# Altium footprint library InvenSense.PcbLib: 1 footprints
Each footprint in its own frame and in the unit in brackets; x right, y up, seen from the top. Pads: shape width x height; smd on the part's side, far side on the other; paste and mask are expansions set on the pad; w line width, h text height; cw(c..) or ccw(c..) is an arc to the next point about the centre after c.
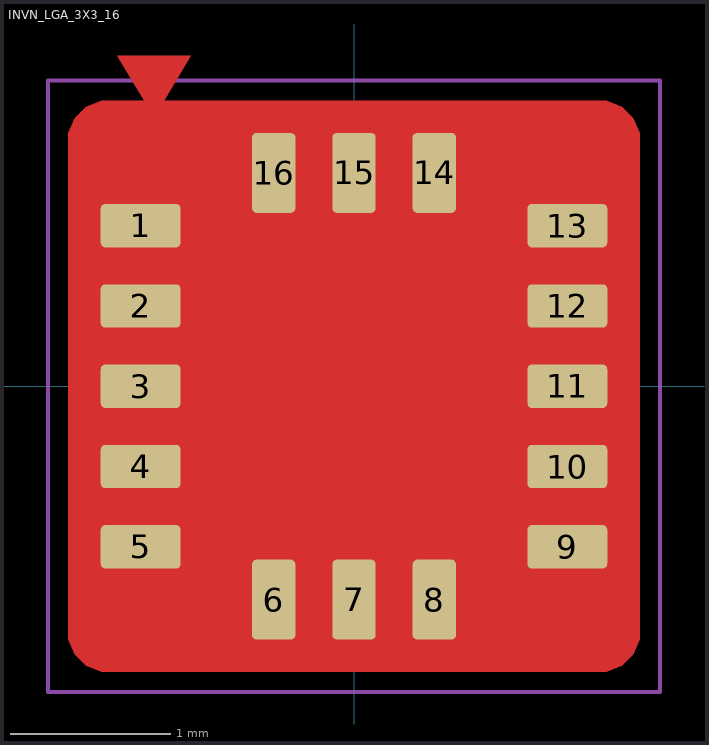
[diagram p0: the footprint, top view; thin cyan lines are the x and y axes]

## INVN_LGA_3X3_16 [mm]
pads (16):
  rrect20% 0.497x0.27 smd mask+0.051: 1(-1.328,1) 2(-1.328,0.5) 3(-1.328,0) 4(-1.328,-0.5) 5(-1.328,-1) 9(1.328,-1) 10(1.328,-0.5) 11(1.328,0) 12(1.328,0.5) 13(1.328,1)
  rrect20% 0.27x0.497 smd mask+0.051: 6(-0.5,-1.328) 7(0,-1.328) 8(0.5,-1.328) 14(0.5,1.328) 15(0,1.328) 16(-0.5,1.328)
Top Layer:
  pour cut-out: -1.524,1.778 -1.575,1.778 -1.668,1.739 -1.739,1.668 -1.778,1.575 -1.778,1.524 -1.778,-1.524 -1.778,-1.575 -1.739,-1.668 -1.668,-1.739 -1.575,-1.778 -1.524,-1.778 1.524,-1.778 1.575,-1.778 1.668,-1.739 1.739,-1.668 1.778,-1.575 1.778,-1.524 1.778,1.524 1.778,1.575 1.739,1.668 1.668,1.739 1.575,1.778 1.524,1.778
  region: -1.245,1.676 -1.016,2.057 -1.473,2.057
Top Component Outline:
  lines w0.025: -1.905,-1.905 -1.905,1.905 1.905,1.905 1.905,-1.905 -1.905,-1.905
Top 3D Body (Mech16):
  lines w0.025: -1.5,-1.5 1.5,-1.5 1.5,1.5 -1.5,1.5 -1.5,-1.5 ; -1.44,-1.125 -1.44,-0.875 -1.09,-0.875 -1.09,-1.125 -1.44,-1.125 ; -1.44,-0.625 -1.09,-0.625 -1.09,-0.375 -1.44,-0.375 -1.44,-0.625 ; -1.44,-0.125 -1.44,0.125 -1.09,0.125 -1.09,-0.125 -1.44,-0.125 ; -1.44,0.375 -1.09,0.375 -1.09,0.625 -1.44,0.625 -1.44,0.375 ; -1.44,0.875 -1.09,0.875 -1.09,1.125 -1.44,1.125 -1.44,0.875 ; -0.625,-1.44 -0.625,-1.09 -0.375,-1.09 -0.375,-1.44 -0.625,-1.44 ; -0.625,1.09 -0.625,1.44 -0.375,1.44 -0.375,1.09 -0.625,1.09 ; -0.125,-1.44 0.125,-1.44 0.125,-1.09 -0.125,-1.09 -0.125,-1.44 ; -0.125,1.09 0.125,1.09 0.125,1.44 -0.125,1.44 -0.125,1.09 ; 0.375,-1.44 0.375,-1.09 0.625,-1.09 0.625,-1.44 0.375,-1.44 ; 0.375,1.09 0.375,1.44 0.625,1.44 0.625,1.09 0.375,1.09 ; 1.09,-1.125 1.09,-0.875 1.44,-0.875 1.44,-1.125 1.09,-1.125 ; 1.09,-0.625 1.09,-0.375 1.44,-0.375 1.44,-0.625 1.09,-0.625 ; 1.09,-0.125 1.44,-0.125 1.44,0.125 1.09,0.125 1.09,-0.125 ; 1.09,0.375 1.09,0.625 1.44,0.625 1.44,0.375 1.09,0.375 ; 1.09,0.875 1.44,0.875 1.44,1.125 1.09,1.125 1.09,0.875
3D body: height 0.75, standoff 0.05, extent -1.5,-1.5 1.5,1.5